# EAGLE library part SH_5PIN (library Connector)
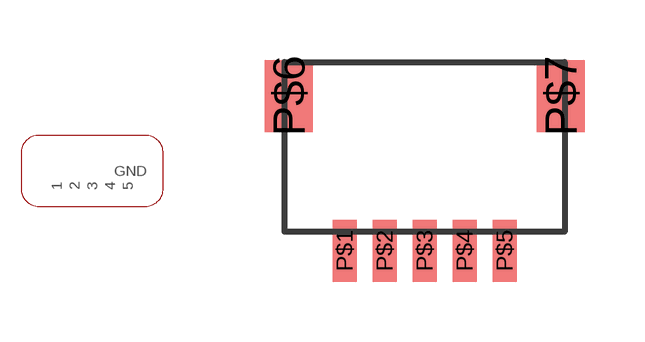
[diagram p3: symbol with the pads of SH_5P; footprint SH_5P]

Designator prefix -

## SH_5PIN  [SH_5P]
P$1  1
P$2  2
P$3  3
P$4  4
P$5  5
P$6  GND
P$7  GND

## Footprint SH_5P (pad centres in mm)
smd 0.6 x 1.55: P$1 -2,0.775; P$2 -1,0.775; P$3 0,0.775; P$4 1,0.775; P$5 2,0.775
smd 1.2 x 1.8: P$6 -3.4,4.65; P$7 3.4,4.65